# EAGLE library part CH330N (library ch330n)
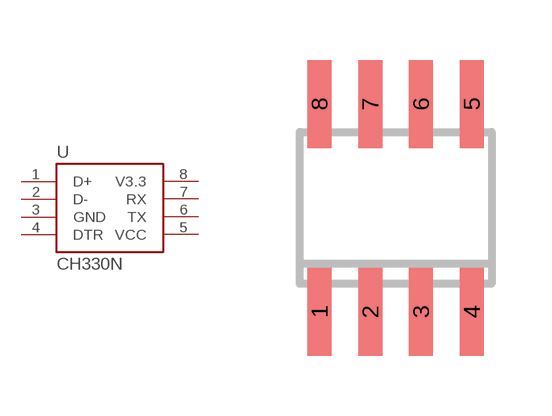
[diagram p0: symbol with the pads of SOIC8; footprint SOIC8]

Designator prefix -

## CH330N  [SOIC8]
1  D+  nc
2  D-  nc
3  GND  nc
4  DTR  pwr
5  VCC
6  TX
7  RX  nc
8  V3.3  pwr

## Footprint SOIC8 (pad centres in mm)
Small Outline IC
smd 0.6 x 2.2: 1 -1.905,-2.6; 2 -0.635,-2.6; 3 0.635,-2.6; 4 1.905,-2.6; 5 1.905,2.6; 6 0.635,2.6; 7 -0.635,2.6; 8 -1.905,2.6